# Altium integrated library NEC Peripheral Graphics Display Controller.IntLib: 1 symbol
Pins are listed as number, name and electrical type; pins without a type are passive.

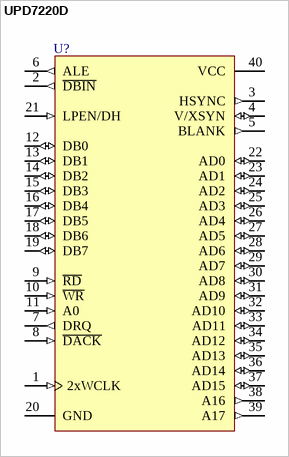
[diagram p0: symbol UPD7220D]

## UPD7220D
designator U?
Graphics Display Controller; Published: 8-Jun-2000; LatestRevisionDate: 17-Jul-2002; LatestRevisionNote: Re-released for DXP Platform.; DatasheetVersion: 1984; PackageVersion: 1984; PackageReference: CDIP40D; Publisher: Altium Limited; PackageDescription: DIP; 40 Leads; Row Spacing 15.24 mm; Pitch 2.54 mm; ComponentLink1Description: Manufacturer Link; ComponentLink1URL: http://www.necel.com/
footprint CDIP40D (DIP; 40 Leads; Row Spacing 15.24 mm; Pitch 2.54 mm)
pins: 1 2xWCLK (in), 2 ~{DBIN} (out), 3 HSYNC (out), 4 V/XSYN (io), 5 BLANK (out), 6 ALE (out), 7 DRQ (out), 8 ~{DACK} (in), 9 ~{RD} (in), 10 ~{WR} (in), 11 A0 (in), 12 DB0 (io), 13 DB1 (io), 14 DB2 (io), 15 DB3 (io), 16 DB4 (io), 17 DB5 (io), 18 DB6 (io), 19 DB7 (io), 20 GND (power), 21 LPEN/DH (in), 22 AD0 (io), 23 AD1 (io), 24 AD2 (io), 25 AD3 (io), 26 AD4 (io), 27 AD5 (io), 28 AD6 (io), 29 AD7 (io), 30 AD8 (io), 31 AD9 (io), 32 AD10 (io), 33 AD11 (io), 34 AD12 (io), 35 AD13 (io), 36 AD14 (io), 37 AD15 (io), 38 A16 (out), 39 A17 (out), 40 VCC (power)